# Altium schematic symbol library resistor-0402.SchLib: 1 symbol
Pins are listed as number, name and electrical type; pins without a type are passive.

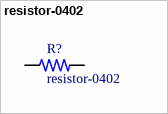
[diagram p0: symbol resistor-0402]

## resistor-0402
designator R?
Resistor 0402 (1005 Metric) Moisture Resistant Thick Film
footprint resistor-0402 (Resistor 0402 (1005 Metric) Moisture Resistant Thick Film)
pins: 1, 2